# EAGLE library part BOXHEADER-5X2_1.27 (library Boxheader)
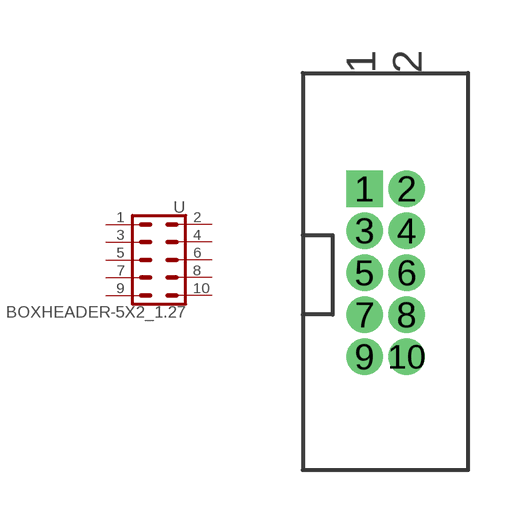
[diagram p2: symbol with the pads of BOXHEADER-5X2_1.27; footprint BOXHEADER-5X2_1.27]

Designator prefix -

## BOXHEADER-5X2_1.27  [BOXHEADER-5X2_1.27]
1  1  pas
2  2  pas
3  3  pas
4  4  pas
5  5  pas
6  6  pas
7  7  pas
8  8  pas
9  9  pas
10  10  pas

## Footprint BOXHEADER-5X2_1.27 (pad centres in mm)
drill 0.6 pad 0.9 square: 1 -0.635,2.5
drill 0.6 pad 0.9: 2 0.635,2.5; 3 -0.635,1.23; 4 0.635,1.23; 5 -0.635,-0.04; 6 0.635,-0.04; 7 -0.635,-1.31; 8 0.635,-1.31; 9 -0.635,-2.58; 10 0.635,-2.58